# Altium integrated library BB Universal Active Filter.IntLib: 5 symbols
Pins are listed as number, name and electrical type; pins without a type are passive.

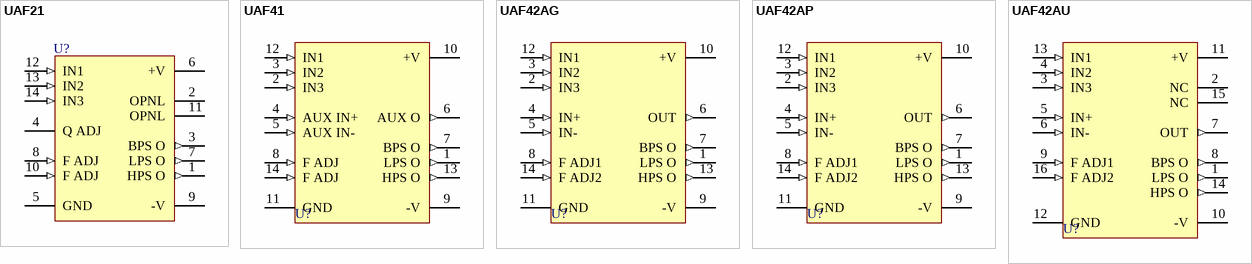
[diagram p0: symbols UAF21 to UAF42AU]

## UAF21
designator U?
Universal Active Filter; Published: 8-Jun-2000; LatestRevisionDate: 17-Jul-2002; LatestRevisionNote: Re-released for DXP Platform.; DatasheetVersion: 1989; PackageVersion: 1995; PackageReference: ZZ003; Publisher: Altium Limited; PackageDescription: DIP; 14 Round Pins; Row Space 7.62 mm; Pitch 2.54 mm; ComponentLink1Description: Manufacturer Link; ComponentLink1URL: http://www.ti.com/
footprint ZZ003 (DIP; 14 Round Pins; Row Space 7.62 mm; Pitch 2.54 mm)
pins: 1 HPS O (out), 2 OPNL, 3 BPS O (out), 4 Q ADJ, 5 GND (power), 6 +V (power), 7 LPS O (out), 8 F ADJ (in), 9 -V (power), 10 F ADJ (in), 11 OPNL, 12 IN1 (in), 13 IN2 (in), 14 IN3 (in)

## UAF41
designator U?
Universal Active Filter; Published: 8-Jun-2000; LatestRevisionDate: 06-Jun-2005; LatestRevisionNote: Stylized 3D Model Added.; DatasheetVersion: 1989; PackageReference: DIP14A; Publisher: Altium Limited; PackageDescription: DIP; 14 Leads; Row Spacing 7.62 mm; Pitch 2.54 mm; ComponentLink1Description: Manufacturer Link; ComponentLink1URL: http://www.ti.com/
footprint DIP14A (DIP; 14 Leads; Row Spacing 7.62 mm; Pitch 2.54 mm)
3D model DIP14 (DIP; 14 Leads; Row Spacing 7.62 mm; Pitch 2.54 mm)
pins: 1 LPS O (out), 2 IN3 (in), 3 IN2 (in), 4 AUX IN+ (in), 5 AUX IN- (in), 6 AUX O (out), 7 BPS O (out), 8 F ADJ (in), 9 -V (power), 10 +V (power), 11 GND (power), 12 IN1 (in), 13 HPS O (out), 14 F ADJ (in)

## UAF42AG
designator U?
Universal Active Filter; Published: 8-Jun-2000; LatestRevisionDate: 06-Jun-2005; LatestRevisionNote: Stylized 3D Model Added.; DatasheetVersion: 1996~1997; PackageVersion: revC; PackageReference: 163C; Publisher: Altium Limited; PackageDescription: DIP; 14 Leads; Row Spacing 7.62 mm; Pitch 2.54 mm; ComponentLink1Description: Manufacturer Link; ComponentLink1URL: http://www.ti.com/; ComponentLink2Description: Datasheet; ComponentLink2URL: http://www-s.ti.com/sc/ds/uaf42.pdf
footprint 163C (DIP; 14 Leads; Row Spacing 7.62 mm; Pitch 2.54 mm)
3D model 010G (DIP; 14 Leads; Row Spacing 7.62 mm; Pitch 2.54 mm)
simulation model UAF42 (SUBCKT)
pins: 1 LPS O (out), 2 IN3 (in), 3 IN2 (in), 4 IN+ (in), 5 IN- (in), 6 OUT (out), 7 BPS O (out), 8 F ADJ1 (in), 9 -V (power), 10 +V (power), 11 GND (power), 12 IN1 (in), 13 HPS O (out), 14 F ADJ2 (in)

## UAF42AP
designator U?
Universal Active Filter; Published: 8-Jun-2000; LatestRevisionDate: 06-Jun-2005; LatestRevisionNote: Stylized 3D Model Added.; DatasheetVersion: Jan-1998; PackageVersion: 1996/1997; PackageReference: 010G; Publisher: Altium Limited; PackageDescription: DIP; 14 Leads; Row Spacing 7.62 mm; Pitch 2.54 mm; ComponentLink1Description: Manufacturer Link; ComponentLink1URL: http://www.ti.com/; ComponentLink2Description: Datasheet; ComponentLink2URL: http://www-s.ti.com/sc/ds/UAF42.pdf
footprint 010G (DIP; 14 Leads; Row Spacing 7.62 mm; Pitch 2.54 mm)
3D model 010G (DIP; 14 Leads; Row Spacing 7.62 mm; Pitch 2.54 mm)
simulation model UAF42 (SUBCKT)
pins: 1 LPS O (out), 2 IN3 (in), 3 IN2 (in), 4 IN+ (in), 5 IN- (in), 6 OUT (out), 7 BPS O (out), 8 F ADJ1 (in), 9 -V (power), 10 +V (power), 11 GND (power), 12 IN1 (in), 13 HPS O (out), 14 F ADJ2 (in)

## UAF42AU
designator U?
Universal Active Filter; Note: Pins 2 and 15 are No internal Connection (NC) pins.; Published: 8-Jun-2000; LatestRevisionDate: 13-Apr-2006; LatestRevisionNote: IPC-7351 Footprint Added.; DatasheetVersion: Jan-1998; PackageReference: 211F; Publisher: Altium Limited; PackageDescription: 16-Pin Small Outline Integrated Circuit 1.27 mm Pitch; Code_JEDEC: MS-013-AA; Code_IPC: SOIC127P1030-16; ComponentLink1Description: Manufacturer Link; ComponentLink1URL: http://www.ti.com/; ComponentLink2Description: Datasheet; ComponentLink2URL: http://www-s.ti.com/sc/ds/UAF42.pdf
footprint 211F_N (SOIC, 16-Leads, Body 10.3x7.5mm, Pitch 1.27mm, IPC Medium Density)
footprint 211F_L (SOIC, 16-Leads, Body 10.3x7.5mm, Pitch 1.27mm, IPC High Density)
footprint 211F_M (SOIC, 16-Leads, Body 10.3x7.5mm, Pitch 1.27mm, IPC Low Density)
3D model SOIC16 (16-Pin Small Outline Integrated Circuit 1.27 mm Pitch)
simulation model UAF42 (SUBCKT)
pins: 1 LPS O (out), 2 NC, 3 IN3 (in), 4 IN2 (in), 5 IN+ (in), 6 IN- (in), 7 OUT (out), 8 BPS O (out), 9 F ADJ1 (in), 10 -V (power), 11 +V (power), 12 GND (power), 13 IN1 (in), 14 HPS O (out), 15 NC, 16 F ADJ2 (in)